# Altium footprint library PcbLib1.PcbLib: 14 footprints
Each footprint in its own frame and in the unit in brackets; x right, y up, seen from the top. Pads: shape width x height; smd on the part's side, far side on the other; paste and mask are expansions set on the pad; w line width, h text height; cw(c..) or ccw(c..) is an arc to the next point about the centre after c.
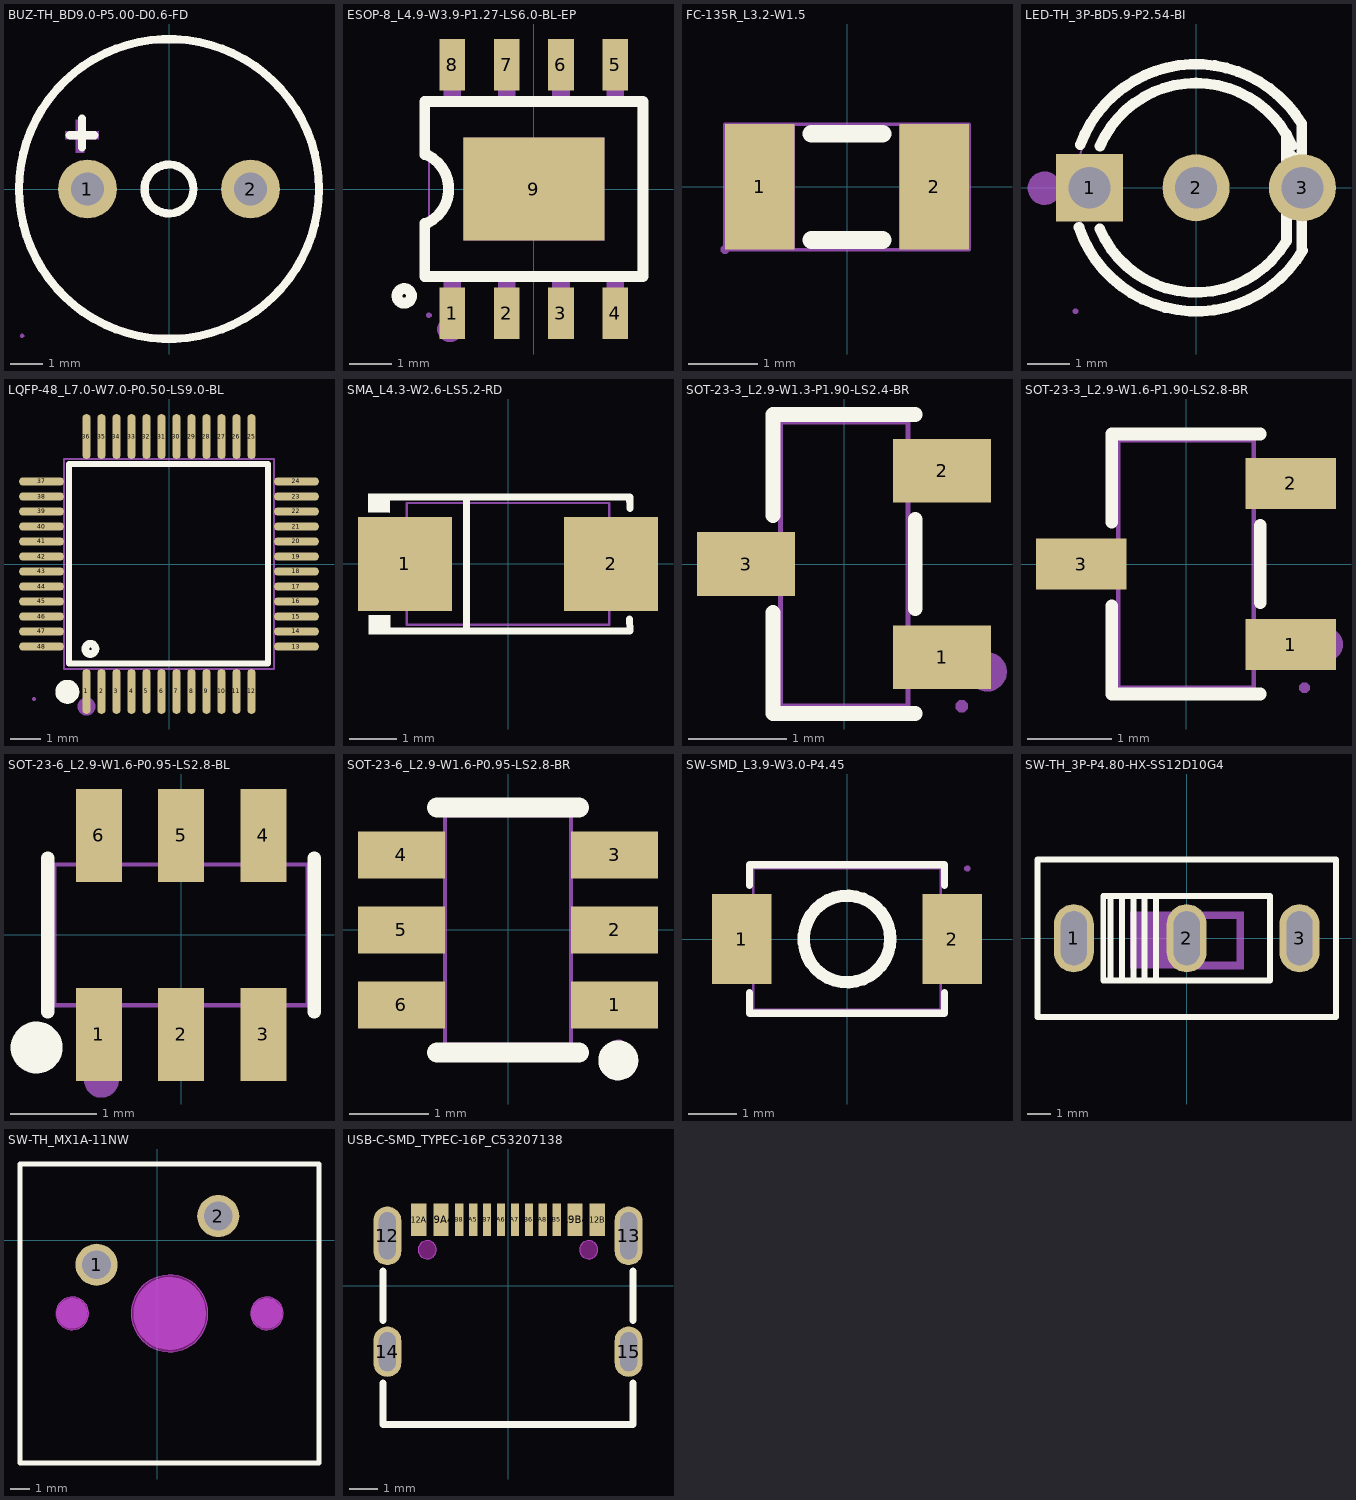
[diagram p0: the footprints below, top view; thin cyan lines are the x and y axes]

## BUZ-TH_BD9.0-P5.00-D0.6-FD [mm]
pads (2):
  round 1.8 hole 1 copper offset 0,0: 1(-2.5,0)
  round 1.8 hole 1: 2(2.5,0)
Top Overlay:
  circle w0.254: c0,0 r4.6
  circle w0.254: c0,0 r0.75
  lines w0.254: -3.048,1.651 -2.286,1.651 ; -2.667,1.27 -2.667,2.159
Mechanical 2:
  region: -3.048,1.524 -2.159,1.524 -2.159,1.778 -3.175,1.778 -3.175,1.524
  region: -2.599,1.235 -2.599,2.124 -2.853,2.124 -2.853,1.108 -2.599,1.108
Mechanical 6:
  lines w0.051: -4.505,0 cw(c0,0) 4.505,0 cw(c0,0) -4.505,0
Mechanical 8:
  region: -4.444,-4.505 -4.444,-4.53 -4.48,-4.566 -4.53,-4.566 -4.566,-4.53 -4.566,-4.505 -4.566,-4.48 -4.53,-4.444 -4.48,-4.444 -4.444,-4.48 -4.444,-4.505 -4.445,-4.505
Mechanical 9:
  region: 2.8,0 2.8,-0.06 2.754,-0.17 2.67,-0.254 2.56,-0.3 2.44,-0.3 2.33,-0.254 2.246,-0.17 2.2,-0.06 2.2,0 2.2,0.06 2.246,0.17 2.33,0.254 2.44,0.3 2.56,0.3 2.67,0.254 2.754,0.17 2.8,0.06 2.8,0
  region: -2.2,0 -2.2,-0.06 -2.246,-0.17 -2.33,-0.254 -2.44,-0.3 -2.56,-0.3 -2.67,-0.254 -2.754,-0.17 -2.8,-0.06 -2.8,0 -2.8,0.06 -2.754,0.17 -2.67,0.254 -2.56,0.3 -2.44,0.3 -2.33,0.254 -2.246,0.17 -2.2,0.06 -2.2,0

## ESOP-8_L4.9-W3.9-P1.27-LS6.0-BL-EP [mm]
pads (9):
  rect 0.6x1.2 smd: 1(-1.905,-2.908) 2(-0.635,-2.908) 3(0.635,-2.908) 4(1.905,-2.908) 5(1.905,2.908) 6(0.635,2.908) 7(-0.635,2.908) 8(-1.905,2.908)
  rect 3.3x2.4 smd: 9(0,0)
Top Overlay:
  circle w0.254: c-3.03,-2.5 r0.17
  lines w0.254: -2.55,-0.8 -2.55,-2.05 2.55,-2.05 2.55,2.05 -2.55,2.05 -2.55,0.8 ; -2.5,-0.8 ccw(c-2.875,0) -2.5,0.8
Mechanical 2:
  circle w0.3: c-1.96,-3.28 r0.15
Mechanical 6:
  lines w0.051: -2.45,-1.95 2.45,-1.95 2.45,1.95 -2.45,1.95 -2.45,-1.95
Mechanical 7:
  region: -2.105,1.94 -2.105,2.31 -1.705,2.31 -1.705,1.94
  region: -0.835,1.94 -0.835,2.31 -0.435,2.31 -0.435,1.94
  region: 0.435,1.94 0.435,2.31 0.835,2.31 0.835,1.94
  region: 1.705,1.94 1.705,2.31 2.105,2.31 2.105,1.94
  region: -2.105,-2.31 -2.105,-1.94 -1.705,-1.94 -1.705,-2.31
  region: -0.835,-2.31 -0.835,-1.94 -0.435,-1.94 -0.435,-2.31
  region: 0.435,-2.31 0.435,-1.94 0.835,-1.94 0.835,-2.31
  region: 1.705,-2.31 1.705,-1.94 2.105,-1.94 2.105,-2.31
Mechanical 8:
  region: -2.393,-2.95 -2.393,-2.975 -2.429,-3.011 -2.479,-3.011 -2.515,-2.975 -2.515,-2.95 -2.515,-2.925 -2.479,-2.889 -2.429,-2.889 -2.393,-2.925
Mechanical 9:
  region: -2.105,2.3 -2.105,2.95 -1.705,2.95 -1.705,2.3
  region: -0.835,2.3 -0.835,2.95 -0.435,2.95 -0.435,2.3
  region: 0.435,2.3 0.435,2.95 0.835,2.95 0.835,2.3
  region: 1.705,2.3 1.705,2.95 2.105,2.95 2.105,2.3
  region: -2.105,-2.95 -2.105,-2.3 -1.705,-2.3 -1.705,-2.95
  region: -0.835,-2.95 -0.835,-2.3 -0.435,-2.3 -0.435,-2.95
  region: 0.435,-2.95 0.435,-2.3 0.835,-2.3 0.835,-2.95
  region: 1.705,-2.95 1.705,-2.3 2.105,-2.3 2.105,-2.95
  region: 1.65,-1.2 -1.65,-1.2 -1.65,1.2 1.65,1.2

## FC-135R_L3.2-W1.5 [mm]
pads (2):
  rect 1x1.8 smd: 1(-1.25,0) 2(1.25,0)
Top Overlay:
  lines w0.254: -0.508,-0.762 0.508,-0.762 ; -0.508,0.762 0.508,0.762
Mechanical 6:
  lines w0.051: -1.75,-0.9 -1.75,0.9 1.75,0.9 1.75,-0.9 -1.75,-0.9
Mechanical 8:
  region: -1.689,-0.9 -1.689,-0.925 -1.725,-0.961 -1.775,-0.961 -1.811,-0.925 -1.811,-0.9 -1.811,-0.875 -1.775,-0.839 -1.725,-0.839 -1.689,-0.875 -1.689,-0.9 -1.69,-0.9
Mechanical 9:
  region: 0.75,-0.9 0.75,0.9 1.75,0.9 1.75,-0.9
  region: -1.75,-0.9 -1.75,0.9 -0.75,0.9 -0.75,-0.9

## LED-TH_3P-BD5.9-P2.54-BI [mm]
pads (3):
  rect 1.6x1.6 hole 1: 1(-2.54,0)
  round 1.6 hole 1: 2(0,0) 3(2.54,0)
Top Overlay:
  lines w0.254: -2.795,-0.946 ccw(c0,0) 2.542,-1.497 ; -2.765,1.028 cw(c0,0) 2.526,1.524 ; -2.3,-0.981 ccw(c0,0) 2.155,-1.269 ; -2.292,0.997 cw(c0,0) 2.291,1.001 ; 2.159,-1.27 2.159,1.27 ; 2.286,-0.635 2.286,0.762 ; 2.52,-1.47 2.52,1.53
Mechanical 2:
  circle w0.399: c-3.62,-0.01 r0.2
Mechanical 6:
  lines w0.051: 2.569,-1.572 cw(c0.073,0) 2.569,1.572 ; 2.57,-1.57 2.57,1.57
Mechanical 8:
  region: -2.816,-2.95 -2.816,-2.975 -2.851,-3.011 -2.902,-3.011 -2.938,-2.975 -2.938,-2.95 -2.938,-2.924 -2.902,-2.889 -2.851,-2.889 -2.816,-2.924
Mechanical 9:
  region: 2.789,0 2.789,-0.05 2.751,-0.141 2.681,-0.211 2.59,-0.249 2.49,-0.249 2.399,-0.211 2.329,-0.141 2.291,-0.05 2.291,0 2.291,0.05 2.329,0.141 2.399,0.211 2.49,0.249 2.59,0.249 2.681,0.211 2.751,0.141 2.789,0.05
  region: 0.249,0 0.249,-0.05 0.211,-0.141 0.141,-0.211 0.05,-0.249 -0.05,-0.249 -0.141,-0.211 -0.211,-0.141 -0.249,-0.05 -0.249,0 -0.249,0.05 -0.211,0.141 -0.141,0.211 -0.05,0.249 0.05,0.249 0.141,0.211 0.211,0.141 0.249,0.05
  region: -2.291,0 -2.291,-0.05 -2.329,-0.141 -2.399,-0.211 -2.49,-0.249 -2.59,-0.249 -2.681,-0.211 -2.751,-0.141 -2.789,-0.05 -2.789,0 -2.789,0.05 -2.751,0.141 -2.681,0.211 -2.59,0.249 -2.49,0.249 -2.399,0.211 -2.329,0.141 -2.291,0.05

## LQFP-48_L7.0-W7.0-P0.50-LS9.0-BL [mm]
pads (48):
  oval 0.27x1.5 smd paste+0 mask+0.05: 1(-2.75,-4.25) 2(-2.25,-4.25) 3(-1.75,-4.25) 4(-1.25,-4.25) 5(-0.75,-4.25) 6(-0.25,-4.25) 7(0.25,-4.25) 8(0.75,-4.25) 9(1.25,-4.25) 10(1.75,-4.25) 11(2.25,-4.25) 12(2.75,-4.25) 25(2.75,4.25) 26(2.25,4.25) 27(1.75,4.25) 28(1.25,4.25) 29(0.75,4.25) 30(0.25,4.25) 31(-0.25,4.25) 32(-0.75,4.25) 33(-1.25,4.25) 34(-1.75,4.25) 35(-2.25,4.25) 36(-2.75,4.25)
  oval 1.5x0.27 smd paste+0 mask+0.05: 13(4.25,-2.75) 14(4.25,-2.25) 15(4.25,-1.75) 16(4.25,-1.25) 17(4.25,-0.75) 18(4.25,-0.25) 19(4.25,0.25) 20(4.25,0.75) 21(4.25,1.25) 22(4.25,1.75) 23(4.25,2.25) 24(4.25,2.75) 37(-4.25,2.75) 38(-4.25,2.25) 39(-4.25,1.75) 40(-4.25,1.25) 41(-4.25,0.75) 42(-4.25,0.25) 43(-4.25,-0.25) 44(-4.25,-0.75) 45(-4.25,-1.25) 46(-4.25,-1.75) 47(-4.25,-2.25) 48(-4.25,-2.75)
Top Overlay:
  circle w0.254: c-2.62,-2.83 r0.17
  lines w0.2: -2.896,3.34 3.302,3.34 3.302,-3.315 -3.327,-3.315 -3.327,3.34 -2.565,3.34
  lines w0.399: -3.39,-4.06 ccw(c-3.389,-4.26) -3.387,-4.06
Mechanical 2:
  circle w0.3: c-2.75,-4.75 r0.15
Mechanical 6:
  lines w0.051: -3.5,-3.5 -3.5,3.5 3.5,3.5 3.5,-3.5 -3.5,-3.5
Mechanical 7:
  drawing of 48 lines, arcs and shapes, not listed
Mechanical 8:
  region: -4.439,-4.5 -4.439,-4.525 -4.475,-4.561 -4.525,-4.561 -4.561,-4.525 -4.561,-4.5 -4.561,-4.475 -4.525,-4.439 -4.475,-4.439 -4.439,-4.475
Mechanical 9:
  drawing of 48 lines, arcs and shapes, not listed

## SMA_L4.3-W2.6-LS5.2-RD [mm]
pads (2):
  rect 2x2 smd: 1(-2.2,0) 2(2.2,0)
Top Overlay:
  region: -2.52,1.502 -2.521,1.096 -2.981,1.1 -2.977,1.502
  region: -2.512,-1.096 -2.513,-1.503 -2.973,-1.498 -2.969,-1.096
  lines w0.152: -2.596,-1.426 2.596,-1.426 ; -2.596,1.426 2.596,1.426 2.603,1.187 ; -0.884,-1.426 -0.884,1.426 ; 2.593,-1.176 2.6,-1.415
Mechanical 2:
  region: -2.317,-0.101 -2.317,0.101 -1.507,0.101 -1.507,-0.101
  region: 2.29,-0.09 2.29,0.112 1.48,0.112 1.48,-0.09
  region: 2.014,-0.675 2.014,0.675 1.811,0.675 1.811,-0.675
Mechanical 6:
  lines w0.051: -2.16,-1.3 -2.16,1.3 2.16,1.3 2.16,-1.3 -2.16,-1.3
Mechanical 8:
  region: -2.544,-1.3 -2.544,-1.325 -2.58,-1.361 -2.63,-1.361 -2.666,-1.325 -2.666,-1.3 -2.666,-1.275 -2.63,-1.239 -2.58,-1.239 -2.544,-1.275
Mechanical 9:
  region: 2.605,0.725 2.605,-0.725 1.48,-0.725 1.48,0.725
  region: -1.48,0.725 -1.48,-0.725 -2.605,-0.725 -2.605,0.725

## SOT-23-3_L2.9-W1.3-P1.90-LS2.4-BR [mm]
pads (3):
  rect 1x0.65 smd: 1(1,-0.95) 2(1,0.95) 3(-1,0)
Top Overlay:
  lines w0.152: -0.726,-0.495 -0.726,-1.526 0.726,-1.526 ; -0.726,0.495 -0.726,1.526 0.726,1.526 ; 0.726,-0.455 0.726,0.455
Mechanical 2:
  circle w0.201: c1.46,-1.1 r0.1
Mechanical 6:
  lines w0.051: -0.65,-1.45 0.65,-1.45 0.65,1.45 -0.65,1.45 -0.65,-1.45
Mechanical 7:
  region: -0.91,-0.215 -0.91,0.215 -0.64,0.215 -0.64,-0.215
  region: 0.64,-1.165 0.64,-0.735 0.91,-0.735 0.91,-1.165
  region: 0.64,0.735 0.64,1.165 0.91,1.165 0.91,0.735
Mechanical 8:
  region: 1.261,-1.45 1.261,-1.475 1.225,-1.511 1.175,-1.511 1.139,-1.475 1.139,-1.45 1.139,-1.425 1.175,-1.389 1.225,-1.389 1.261,-1.425
Mechanical 9:
  region: -1.2,-0.215 -1.2,0.215 -0.9,0.215 -0.9,-0.215
  region: 0.9,-1.165 0.9,-0.735 1.2,-0.735 1.2,-1.165
  region: 0.9,0.735 0.9,1.165 1.2,1.165 1.2,0.735

## SOT-23-3_L2.9-W1.6-P1.90-LS2.8-BR [mm]
pads (3):
  rect 1.07x0.6 smd: 1(1.235,-0.95) 2(1.235,0.95) 3(-1.235,0)
Top Overlay:
  lines w0.152: -0.876,-0.495 -0.876,-1.536 0.876,-1.536 ; -0.876,0.495 -0.876,1.536 0.876,1.536 ; 0.876,-0.455 0.876,0.455
Mechanical 2:
  circle w0.201: c1.651,-0.95 r0.1
Mechanical 6:
  lines w0.051: -0.8,-1.46 0.8,-1.46 0.8,1.46 -0.8,1.46 -0.8,-1.46
Mechanical 7:
  region: -0.96,-0.2 -0.96,0.2 -0.79,0.2 -0.79,-0.2
  region: 0.79,0.75 0.79,1.15 0.96,1.15 0.96,0.75
  region: 0.79,-1.15 0.79,-0.75 0.96,-0.75 0.96,-1.15
Mechanical 8:
  region: 1.461,-1.46 1.461,-1.485 1.425,-1.521 1.375,-1.521 1.339,-1.485 1.339,-1.46 1.339,-1.435 1.375,-1.399 1.425,-1.399 1.461,-1.435 1.461,-1.46 1.46,-1.46
Mechanical 9:
  region: -0.95,-0.2 -0.95,0.2 -1.4,0.2 -1.4,-0.2
  region: 0.95,0.75 0.95,1.15 1.4,1.15 1.4,0.75
  region: 0.95,-1.15 0.95,-0.75 1.4,-0.75 1.4,-1.15

## SOT-23-6_L2.9-W1.6-P0.95-LS2.8-BL [mm]
pads (6):
  rect 0.532x1.072 smd: 1(-0.95,-1.149) 2(0,-1.149) 3(0.95,-1.149) 4(0.95,1.149) 5(0,1.149) 6(-0.95,1.149)
Top Overlay:
  circle w0.3: c-1.668,-1.301 r0.15
  lines w0.152: -1.539,-0.889 -1.539,0.889 ; 1.539,-0.889 1.539,0.889
Mechanical 2:
  circle w0.201: c-0.92,-1.68 r0.1
Mechanical 6:
  lines w0.051: -1.463,-0.813 1.463,-0.813 1.463,0.813 -1.463,0.813 -1.463,-0.813
Mechanical 7:
  region: -1.165,-0.803 -0.735,-0.803 -0.735,-0.935 -1.165,-0.935
  region: -0.215,-0.803 0.215,-0.803 0.215,-0.935 -0.215,-0.935
  region: 0.735,-0.803 1.165,-0.803 1.165,-0.935 0.735,-0.935
  region: 0.735,0.935 1.165,0.935 1.165,0.803 0.735,0.803
  region: -0.215,0.935 0.215,0.935 0.215,0.803 -0.215,0.803
  region: -1.165,0.935 -0.735,0.935 -0.735,0.803 -1.165,0.803
Mechanical 8:
  region: -1.402,-1.4 -1.402,-1.425 -1.438,-1.461 -1.488,-1.461 -1.524,-1.425 -1.524,-1.4 -1.524,-1.375 -1.488,-1.339 -1.438,-1.339 -1.402,-1.375
Mechanical 9:
  region: -1.165,-0.925 -0.735,-0.925 -0.735,-1.4 -1.165,-1.4
  region: -0.215,-0.925 0.215,-0.925 0.215,-1.4 -0.215,-1.4
  region: 0.735,-0.925 1.165,-0.925 1.165,-1.4 0.735,-1.4
  region: 0.735,0.925 1.165,0.925 1.165,1.4 0.735,1.4
  region: -0.215,0.925 0.215,0.925 0.215,1.4 -0.215,1.4
  region: -1.165,0.925 -0.735,0.925 -0.735,1.4 -1.165,1.4

## SOT-23-6_L2.9-W1.6-P0.95-LS2.8-BR [mm]
pads (6):
  rect 1.1x0.6 smd paste+0 mask+0.051: 1(1.35,-0.95) 2(1.35,0) 3(1.35,0.95) 4(-1.35,0.95) 5(-1.35,0) 6(-1.35,-0.95)
Top Overlay:
  circle w0.254: c1.397,-1.651 r0.127
  lines w0.254: -0.9,-1.55 0.9,-1.55 ; -0.9,1.55 0.9,1.55
Mechanical 2:
  circle w0.201: c1.4,-0.95 r0.1
Mechanical 6:
  lines w0.051: -0.8,-1.45 -0.8,1.45 0.8,1.45 0.8,-1.45 -0.8,-1.45
Mechanical 7:
  region: -0.935,0.735 -0.935,1.165 -0.79,1.165 -0.79,0.735
  region: -0.935,-0.215 -0.935,0.215 -0.79,0.215 -0.79,-0.215
  region: -0.935,-1.165 -0.935,-0.735 -0.79,-0.735 -0.79,-1.165
  region: 0.935,-0.735 0.935,-1.165 0.79,-1.165 0.79,-0.735
  region: 0.935,0.215 0.935,-0.215 0.79,-0.215 0.79,0.215
  region: 0.935,1.165 0.935,0.735 0.79,0.735 0.79,1.165
Mechanical 8:
  region: 1.461,-1.45 1.461,-1.475 1.425,-1.511 1.375,-1.511 1.339,-1.475 1.339,-1.45 1.339,-1.425 1.375,-1.389 1.425,-1.389 1.461,-1.425
Mechanical 9:
  region: -0.925,-1.165 -0.925,-0.735 -1.4,-0.735 -1.4,-1.165
  region: -0.925,-0.215 -0.925,0.215 -1.4,0.215 -1.4,-0.215
  region: -0.925,0.735 -0.925,1.165 -1.4,1.165 -1.4,0.735
  region: 0.925,0.735 0.925,1.165 1.4,1.165 1.4,0.735
  region: 0.925,-0.215 0.925,0.215 1.4,0.215 1.4,-0.215
  region: 0.925,-1.165 0.925,-0.735 1.4,-0.735 1.4,-1.165

## SW-SMD_L3.9-W3.0-P4.45 [mm]
pads (2):
  rect 1.23x1.86 smd: 1(-2.185,0) 2(2.185,0)
Top Overlay:
  circle w0.254: c0,0 r0.9
  lines w0.152: -2.026,-1.11 -2.026,-1.541 2.026,-1.541 2.026,-1.11 ; -2.026,1.11 -2.026,1.541 2.026,1.541 2.026,1.11
Mechanical 6:
  lines w0.051: -1.95,-1.465 -1.95,1.465 1.95,1.465 1.95,-1.465 -1.95,-1.465
Mechanical 8:
  region: 2.561,1.465 2.561,1.44 2.525,1.404 2.475,1.404 2.439,1.44 2.439,1.465 2.439,1.49 2.475,1.526 2.525,1.526 2.561,1.49
Mechanical 9:
  region: -2.5,0.65 -2.5,-0.65 -1.6,-0.65 -1.6,0.65
  region: 2.5,0.65 2.5,-0.65 1.6,-0.65 1.6,0.65

## SW-TH_3P-P4.80-HX-SS12D10G4 [mm]
pads (3):
  oval 1.7x2.9 hole 1.1 slot 2.3 at 90 deg paste-2539.97 mask+0.05: 1(-4.8,0) 2(0,0) 3(4.8,0)
Top Overlay:
  lines w0.254: -3.242,-1.8 -3.233,-1.8 -3.233,1.8 ; -2.762,-1.8 -2.753,-1.8 -2.753,1.8 ; -2.283,-1.8 -2.273,-1.8 -2.273,1.8 ; -1.803,-1.8 -1.793,-1.8 -1.793,1.8 ; -1.314,1.8 -1.314,-1.8 -1.257,-1.8 ; 2.317,1.8 2.74,1.8 ; 2.45,1.8 -3.55,1.8 -3.55,-1.8 3.55,-1.8 3.55,1.3 3.55,1.8 2.55,1.8 ; -6.35,-3.35 6.35,-3.35 6.35,3.35 -6.35,3.35 -6.35,-3.35
Mechanical 2:
  region: -0.019,-1.301 -0.019,1.099 -0.019,1.137 0.284,1.137 0.284,-1.303 0.184,-1.303
  region: -0.021,-1.007 2.379,-1.007 2.417,-1.007 2.417,-1.311 -0.023,-1.311 -0.023,-1.21
  region: 2.124,-1.311 2.124,1.089 2.124,1.127 2.428,1.127 2.428,-1.313 2.327,-1.313
  region: -0.013,1.129 2.387,1.129 2.425,1.129 2.425,0.826 -0.015,0.826 -0.015,0.926
  region: -2.4,1.13 0,1.13 0,-1.27 -2.4,-1.27
Mechanical 6:
  lines w0.051: -6.35,-3.35 6.35,-3.35 6.35,3.35 -6.35,3.35 -6.35,-3.35
Mechanical 8:
  region: -6.289,-3.35 -6.289,-3.375 -6.325,-3.411 -6.375,-3.411 -6.411,-3.375 -6.411,-3.35 -6.411,-3.325 -6.375,-3.289 -6.325,-3.289 -6.289,-3.325 -6.289,-3.35 -6.29,-3.35
Mechanical 9:
  region: 4.4,0.65 5.2,0.65 5.2,-0.65 4.4,-0.65
  region: -0.4,0.65 0.4,0.65 0.4,-0.65 -0.4,-0.65
  region: -5.2,0.65 -4.4,0.65 -4.4,-0.65 -5.2,-0.65

## SW-TH_MX1A-11NW [mm]
pads (2):
  round 2.2 hole 1.5 paste-2539.97 mask+0.05: 1(-3.175,-1.27) 2(3.175,1.27)
Top Overlay:
  lines w0.254: -7.165,-11.61 -7.165,3.99 8.435,3.99 8.435,-11.61 -7.165,-11.61
Keep-Out Layer:
  board cut-out: 2.634,-3.81 2.634,-4.007 2.557,-4.393 2.406,-4.757 2.188,-5.084 1.909,-5.363 1.582,-5.581 1.218,-5.732 0.832,-5.809 0.438,-5.809 0.052,-5.732 -0.312,-5.581 -0.639,-5.363 -0.918,-5.084 -1.136,-4.757 -1.287,-4.393 -1.364,-4.007 -1.364,-3.81 -1.364,-3.613 -1.287,-3.227 -1.136,-2.863 -0.918,-2.536 -0.639,-2.257 -0.312,-2.039 0.052,-1.888 0.438,-1.811 0.832,-1.811 1.218,-1.888 1.582,-2.039 1.909,-2.257 2.188,-2.536 2.406,-2.863 2.557,-3.227 2.634,-3.613 2.634,-3.81 2.635,-3.81
  board cut-out: -3.594,-3.81 -3.594,-3.922 -3.652,-4.138 -3.764,-4.332 -3.923,-4.491 -4.117,-4.603 -4.333,-4.661 -4.557,-4.661 -4.773,-4.603 -4.967,-4.491 -5.126,-4.332 -5.238,-4.138 -5.296,-3.922 -5.296,-3.81 -5.296,-3.698 -5.238,-3.482 -5.126,-3.288 -4.967,-3.129 -4.773,-3.017 -4.557,-2.959 -4.333,-2.959 -4.117,-3.017 -3.923,-3.129 -3.764,-3.288 -3.652,-3.482 -3.594,-3.698 -3.594,-3.81
  board cut-out: 6.566,-3.81 6.566,-3.922 6.508,-4.138 6.396,-4.332 6.237,-4.491 6.043,-4.603 5.827,-4.661 5.603,-4.661 5.387,-4.603 5.193,-4.491 5.034,-4.332 4.922,-4.138 4.864,-3.922 4.864,-3.81 4.864,-3.698 4.922,-3.482 5.034,-3.288 5.193,-3.129 5.387,-3.017 5.603,-2.959 5.827,-2.959 6.043,-3.017 6.237,-3.129 6.396,-3.288 6.508,-3.482 6.566,-3.698 6.566,-3.81
Keep-Out Layer:
  drawing of 9 lines, arcs and shapes, not listed
Mechanical 1:
  circle w0.003: c0.635,-3.81 r2
  circle w0.003: c-4.445,-3.81 r0.851
  circle w0.003: c5.715,-3.81 r0.851
Mechanical 2:
  circle w1.9: c0.635,-3.81 r0.95
  circle w0.8: c5.715,-3.81 r0.4
  circle w0.8: c-4.445,-3.81 r0.4
Mechanical 6:
  lines w0.051: -7.165,-11.61 8.435,-11.61 8.435,3.99 -7.165,3.99 -7.165,-11.61
Mechanical 8:
  region: -7.104,-11.61 -7.104,-11.635 -7.14,-11.671 -7.19,-11.671 -7.226,-11.635 -7.226,-11.61 -7.226,-11.585 -7.19,-11.549 -7.14,-11.549 -7.104,-11.585 -7.104,-11.61 -7.105,-11.61
Mechanical 9:
  region: 2.675,1.42 3.675,1.42 3.675,1.12 2.675,1.12
  region: -3.575,-1.02 -2.775,-1.02 -2.775,-1.52 -3.575,-1.52

## USB-C-SMD_TYPEC-16P_C53207138 [mm]
pads (16):
  oval 1x2.1 hole 0.6 slot 1.7 at 90 deg paste-2539.97 mask+0.05: 12(-4.32,1.787) 13(4.32,1.787)
  oval 1x1.8 hole 0.6 slot 1.4 at 90 deg paste-2539.97 mask+0.05: 14(-4.32,-2.362) 15(4.32,-2.362)
  rect 0.3x1.15 smd paste-100 mask+0.05: A5(-1.25,2.362) A6(-0.25,2.362) A7(0.25,2.362) A8(1.25,2.362) B5(1.75,2.362) B6(0.75,2.362) B7(-0.75,2.362) B8(-1.75,2.362)
  rect 0.55x1.15 smd paste-100 mask+0.05: A9B4(2.4,2.362) A12B1(3.2,2.362) B9A4(-2.4,2.362) B12A1(-3.2,2.362)
Top Overlay:
  lines w0.254: -4.47,-3.478 -4.47,-4.962 4.47,-4.962 4.47,-3.478 ; -4.47,-1.247 -4.47,0.522 ; 4.47,-1.247 4.47,0.522
Keep-Out Layer:
  board cut-out: 3.215,1.287 3.215,1.223 3.166,1.103 3.074,1.012 2.955,0.962 2.825,0.962 2.706,1.012 2.614,1.103 2.565,1.223 2.565,1.287 2.565,1.352 2.614,1.472 2.706,1.563 2.825,1.613 2.955,1.613 3.074,1.563 3.166,1.472 3.215,1.352
  board cut-out: -2.565,1.287 -2.565,1.223 -2.614,1.103 -2.706,1.012 -2.825,0.962 -2.955,0.962 -3.074,1.012 -3.166,1.103 -3.215,1.223 -3.215,1.287 -3.215,1.352 -3.166,1.472 -3.074,1.563 -2.955,1.613 -2.825,1.613 -2.706,1.563 -2.614,1.472 -2.565,1.352
Keep-Out Layer:
  circle w0.003: c2.89,1.287 r0.325
  circle w0.003: c-2.89,1.287 r0.325
  region: 3.215,1.287 3.206,1.21 3.178,1.136 3.133,1.072 3.075,1.02 3.005,0.984 2.929,0.965 2.851,0.965 2.775,0.984 2.705,1.02 2.647,1.072 2.602,1.136 2.574,1.21 2.565,1.287 2.574,1.365 2.602,1.438 2.647,1.503 2.705,1.555 2.775,1.591 2.851,1.61 2.929,1.61 3.005,1.591 3.075,1.555 3.133,1.503 3.178,1.438 3.206,1.365
  region: 3.215,1.287 3.215,1.223 3.166,1.103 3.074,1.012 2.955,0.962 2.825,0.962 2.706,1.012 2.614,1.103 2.565,1.223 2.565,1.287 2.565,1.352 2.614,1.472 2.706,1.563 2.825,1.613 2.955,1.613 3.074,1.563 3.166,1.472 3.215,1.352
  region: -2.565,1.287 -2.574,1.21 -2.602,1.136 -2.647,1.072 -2.705,1.02 -2.775,0.984 -2.851,0.965 -2.929,0.965 -3.005,0.984 -3.075,1.02 -3.133,1.072 -3.178,1.136 -3.206,1.21 -3.215,1.287 -3.206,1.365 -3.178,1.438 -3.133,1.503 -3.075,1.555 -3.005,1.591 -2.929,1.61 -2.851,1.61 -2.775,1.591 -2.705,1.555 -2.647,1.503 -2.602,1.438 -2.574,1.365
  region: -2.565,1.287 -2.565,1.223 -2.614,1.103 -2.706,1.012 -2.825,0.962 -2.955,0.962 -3.074,1.012 -3.166,1.103 -3.215,1.223 -3.215,1.287 -3.215,1.352 -3.166,1.472 -3.074,1.563 -2.955,1.613 -2.825,1.613 -2.706,1.563 -2.614,1.472 -2.565,1.352
Mechanical 1:
  circle w0.003: c2.89,1.287 r0.325
  circle w0.003: c-2.89,1.287 r0.325